# Altium footprint library SOD371X160X114L25X61N.PcbLib: 1 footprints
Each footprint in its own frame and in the unit in brackets; x right, y up, seen from the top. Pads: shape width x height; smd on the part's side, far side on the other; paste and mask are expansions set on the pad; w line width, h text height; cw(c..) or ccw(c..) is an arc to the next point about the centre after c.
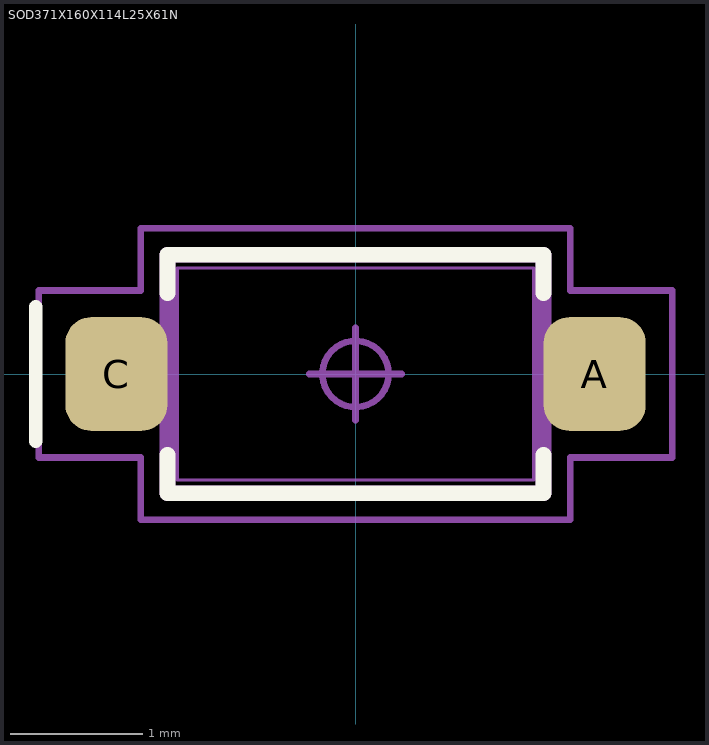
[diagram p0: the footprint, top view; thin cyan lines are the x and y axes]

## SOD371X160X114L25X61N [mm] "Diode, Small Outline Diode (SOD); 2.69 mm L X 1.60 mm W X 1.35 mm H Body"
height 1.35
pads (2):
  rrect50% 0.77x0.859 smd: A(1.805,0) C(-1.805,0)
Top Overlay:
  lines w0.1: -2.413,-0.508 -2.413,0.508
  lines w0.12: -1.42,-0.61 -1.42,-0.9 1.42,-0.9 1.42,-0.61 ; -1.42,0.61 -1.42,0.9 1.42,0.9 1.42,0.61
Mechanical 3:
  lines w0.12: -1.42,-0.9 1.42,-0.9 1.42,0.9 -1.42,0.9 -1.42,-0.9
Mechanical 5:
  lines w0.025: -1.855,-0.305 -1.855,0.305 -1.605,0.305 -1.605,-0.305 -1.855,-0.305 ; -1.345,-0.8 1.345,-0.8 1.345,0.8 -1.345,0.8 -1.345,-0.8 ; 1.605,-0.305 1.855,-0.305 1.855,0.305 1.605,0.305 1.605,-0.305
Mechanical 7:
  circle w0.05: c0,0 r0.25
  lines w0.05: -0.35,0 0.35,0 ; 0,-0.35 0,0.35 ; -2.39,-0.63 -1.62,-0.63 -1.62,-1.1 1.62,-1.1 1.62,-0.63 2.39,-0.63 2.39,0.63 1.62,0.63 1.62,1.1 -1.62,1.1 -1.62,0.63 -2.39,0.63 -2.39,-0.63
Mechanical 9:
  text "'.Designator'" at -5.817,-0.398 h1.02
3D body "SOD371X160X114L25X61.STEP": height 1.35, standoff 0, extent -1.855,-0.8 1.855,0.8
3D body: height 1.35, standoff 0, extent -2.39,-1.1 2.39,1.1